# Altium schematic symbol library WCAP-CSGP.SchLib: 1002 symbols (part 19 of 21)
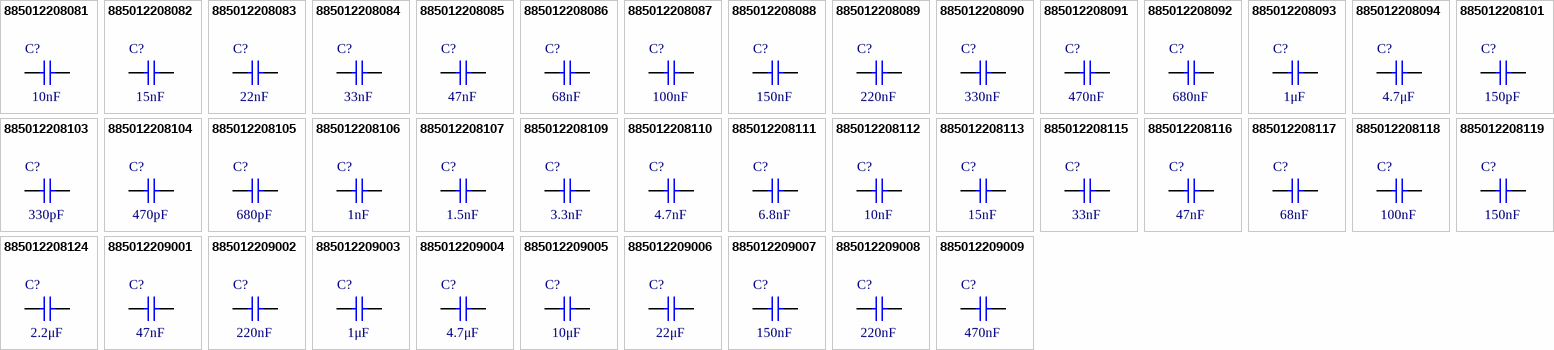
[diagram p43: symbols 885012208081 to 885012209009]

## 885012208092
designator C?, comment 680nF
WCAP-CSGP Multilayer Ceramic Chip Capacitor, General Purpose, size 1206, X7R, 680nF, 50V; Manufacturer Part Number: 885012208092; Manufacturer: Wurth Elektronik; Case/Size Code: 1206; Capacitance Tolerance: +/-10%; Dissipation Factor: 3%; Insulation Resistance: 0.7GΩ; Technical Reference: X7R1206684K050DFCT10000; Category: Multilayer Ceramic Chip Capacitors; Match Code: WCAP-CSGP; ComponentLink1Description: Website Link; ComponentLink1URL: https://www.we-online.com/redexpert/article/885012208092?ad; ComponentLink2Description: Datasheet Link; ComponentLink2URL: https://www.we-online.com/redexpert/spec/885012208092?ad; Mount: Surface Mount; Min Operating Temperature: -55°C; Max Operating Temperature: 125°C; Packaging: Tape and Reel; Length: 3.2mm; Width: 1.6mm; Height: 1.6mm; Capacitance: 680nF; Ceramic Type: X7R; Rated Voltage (DC): 50V
footprint WCAP-CSGP_1206_L3.2W1.6H1.6
simulation model 1206_885012208092_680nF
pins: 1, 2

## 885012208093
designator C?, comment 1μF
WCAP-CSGP Multilayer Ceramic Chip Capacitor, General Purpose, size 1206, X7R, 1μF, 50V; Manufacturer Part Number: 885012208093; Manufacturer: Wurth Elektronik; Case/Size Code: 1206; Capacitance Tolerance: +/-10%; Dissipation Factor: 3%; Insulation Resistance: 0.5GΩ; Technical Reference: X7R1206105K050DFCT10000; Category: Multilayer Ceramic Chip Capacitors; Match Code: WCAP-CSGP; ComponentLink1Description: Website Link; ComponentLink1URL: https://www.we-online.com/redexpert/article/885012208093?ad; ComponentLink2Description: Datasheet Link; ComponentLink2URL: https://www.we-online.com/redexpert/spec/885012208093?ad; Mount: Surface Mount; Min Operating Temperature: -55°C; Max Operating Temperature: 125°C; Packaging: Tape and Reel; Length: 3.2mm; Width: 1.6mm; Height: 1.6mm; Capacitance: 1μF; Ceramic Type: X7R; Rated Voltage (DC): 50V
footprint WCAP-CSGP_1206_L3.2W1.6H1.6
simulation model 1206_885012208093_1uF
pins: 1, 2

## 885012208094
designator C?, comment 4.7μF
WCAP-CSGP Multilayer Ceramic Chip Capacitor, General Purpose, size 1206, X7R, 4.7μF, 50V; Manufacturer Part Number: 885012208094; Manufacturer: Wurth Elektronik; Case/Size Code: 1206; Capacitance Tolerance: +/-10%; Dissipation Factor: 10%; Insulation Resistance: 0.02GΩ; Technical Reference: X7R1206475K050DFCT10000; Category: Multilayer Ceramic Chip Capacitors; Match Code: WCAP-CSGP; ComponentLink1Description: Website Link; ComponentLink1URL: https://www.we-online.com/redexpert/article/885012208094?ad; ComponentLink2Description: Datasheet Link; ComponentLink2URL: https://www.we-online.com/redexpert/spec/885012208094?ad; Mount: Surface Mount; Min Operating Temperature: -55°C; Max Operating Temperature: 125°C; Packaging: Tape and Reel; Length: 3.2mm; Width: 1.6mm; Height: 1.6mm; Capacitance: 4.7μF; Ceramic Type: X7R; Rated Voltage (DC): 50V
footprint WCAP-CSGP_1206_L3.2W1.6H1.6
simulation model 1206_885012208094_4.7uF
pins: 1, 2

## 885012208101
designator C?, comment 150pF
WCAP-CSGP Multilayer Ceramic Chip Capacitor, General Purpose, size 1206, X7R, 150pF, 100V; Manufacturer Part Number: 885012208101; Manufacturer: Wurth Elektronik; Case/Size Code: 1206; Capacitance Tolerance: +/-10%; Dissipation Factor: 2.5%; Insulation Resistance: 10GΩ; Technical Reference: X7R1206151K100DFCT10000; Category: Multilayer Ceramic Chip Capacitors; Match Code: WCAP-CSGP; ComponentLink1Description: Website Link; ComponentLink1URL: https://www.we-online.com/redexpert/article/885012208101?ad; ComponentLink2Description: Datasheet Link; ComponentLink2URL: https://www.we-online.com/redexpert/spec/885012208101?ad; Mount: Surface Mount; Min Operating Temperature: -55°C; Max Operating Temperature: 125°C; Packaging: Tape and Reel; Length: 3.2mm; Width: 1.6mm; Height: 0.8mm; Capacitance: 150pF; Ceramic Type: X7R; Rated Voltage (DC): 100V
footprint WCAP-CSGP_1206_L3.2W1.6H0.8
simulation model 1206_885012208101_150pF
pins: 1, 2

## 885012208103
designator C?, comment 330pF
WCAP-CSGP Multilayer Ceramic Chip Capacitor, General Purpose, size 1206, X7R, 330pF, 100V; Manufacturer Part Number: 885012208103; Manufacturer: Wurth Elektronik; Case/Size Code: 1206; Capacitance Tolerance: +/-10%; Dissipation Factor: 2.5%; Insulation Resistance: 10GΩ; Technical Reference: X7R1206331K100DFCT10000; Category: Multilayer Ceramic Chip Capacitors; Match Code: WCAP-CSGP; ComponentLink1Description: Website Link; ComponentLink1URL: https://www.we-online.com/redexpert/article/885012208103?ad; ComponentLink2Description: Datasheet Link; ComponentLink2URL: https://www.we-online.com/redexpert/spec/885012208103?ad; Mount: Surface Mount; Min Operating Temperature: -55°C; Max Operating Temperature: 125°C; Packaging: Tape and Reel; Length: 3.2mm; Width: 1.6mm; Height: 0.8mm; Capacitance: 330pF; Ceramic Type: X7R; Rated Voltage (DC): 100V
footprint WCAP-CSGP_1206_L3.2W1.6H0.8
simulation model 1206_885012208103_330pF
pins: 1, 2

## 885012208104
designator C?, comment 470pF
WCAP-CSGP Multilayer Ceramic Chip Capacitor, General Purpose, size 1206, X7R, 470pF, 100V; Manufacturer Part Number: 885012208104; Manufacturer: Wurth Elektronik; Case/Size Code: 1206; Capacitance Tolerance: +/-10%; Dissipation Factor: 2.5%; Insulation Resistance: 10GΩ; Technical Reference: X7R1206471K100DFCT10000; Category: Multilayer Ceramic Chip Capacitors; Match Code: WCAP-CSGP; ComponentLink1Description: Website Link; ComponentLink1URL: https://www.we-online.com/redexpert/article/885012208104?ad; ComponentLink2Description: Datasheet Link; ComponentLink2URL: https://www.we-online.com/redexpert/spec/885012208104?ad; Mount: Surface Mount; Min Operating Temperature: -55°C; Max Operating Temperature: 125°C; Packaging: Tape and Reel; Length: 3.2mm; Width: 1.6mm; Height: 0.8mm; Capacitance: 470pF; Ceramic Type: X7R; Rated Voltage (DC): 100V
footprint WCAP-CSGP_1206_L3.2W1.6H0.8
simulation model 1206_885012208104_470pF
pins: 1, 2

## 885012208105
designator C?, comment 680pF
WCAP-CSGP Multilayer Ceramic Chip Capacitor, General Purpose, size 1206, X7R, 680pF, 100V; Manufacturer Part Number: 885012208105; Manufacturer: Wurth Elektronik; Case/Size Code: 1206; Capacitance Tolerance: +/-10%; Dissipation Factor: 2.5%; Insulation Resistance: 10GΩ; Technical Reference: X7R1206681K100DFCT10000; Category: Multilayer Ceramic Chip Capacitors; Match Code: WCAP-CSGP; ComponentLink1Description: Website Link; ComponentLink1URL: https://www.we-online.com/redexpert/article/885012208105?ad; ComponentLink2Description: Datasheet Link; ComponentLink2URL: https://www.we-online.com/redexpert/spec/885012208105?ad; Mount: Surface Mount; Min Operating Temperature: -55°C; Max Operating Temperature: 125°C; Packaging: Tape and Reel; Length: 3.2mm; Width: 1.6mm; Height: 0.8mm; Capacitance: 680pF; Ceramic Type: X7R; Rated Voltage (DC): 100V
footprint WCAP-CSGP_1206_L3.2W1.6H0.8
simulation model 1206_885012208105_680pF
pins: 1, 2

## 885012208106
designator C?, comment 1nF
WCAP-CSGP Multilayer Ceramic Chip Capacitor, General Purpose, size 1206, X7R, 1nF, 100V; Manufacturer Part Number: 885012208106; Manufacturer: Wurth Elektronik; Case/Size Code: 1206; Capacitance Tolerance: +/-10%; Dissipation Factor: 2.5%; Insulation Resistance: 10GΩ; Technical Reference: X7R1206102K100DFCT10000; Category: Multilayer Ceramic Chip Capacitors; Match Code: WCAP-CSGP; ComponentLink1Description: Website Link; ComponentLink1URL: https://www.we-online.com/redexpert/article/885012208106?ad; ComponentLink2Description: Datasheet Link; ComponentLink2URL: https://www.we-online.com/redexpert/spec/885012208106?ad; Mount: Surface Mount; Min Operating Temperature: -55°C; Max Operating Temperature: 125°C; Packaging: Tape and Reel; Length: 3.2mm; Width: 1.6mm; Height: 0.8mm; Capacitance: 1nF; Ceramic Type: X7R; Rated Voltage (DC): 100V
footprint WCAP-CSGP_1206_L3.2W1.6H0.8
simulation model 1206_885012208106_1nF
pins: 1, 2

## 885012208107
designator C?, comment 1.5nF
WCAP-CSGP Multilayer Ceramic Chip Capacitor, General Purpose, size 1206, X7R, 1.5nF, 100V; Manufacturer Part Number: 885012208107; Manufacturer: Wurth Elektronik; Case/Size Code: 1206; Capacitance Tolerance: +/-10%; Dissipation Factor: 2.5%; Insulation Resistance: 10GΩ; Technical Reference: X7R1206152K100DFCT10000; Category: Multilayer Ceramic Chip Capacitors; Match Code: WCAP-CSGP; ComponentLink1Description: Website Link; ComponentLink1URL: https://www.we-online.com/redexpert/article/885012208107?ad; ComponentLink2Description: Datasheet Link; ComponentLink2URL: https://www.we-online.com/redexpert/spec/885012208107?ad; Mount: Surface Mount; Min Operating Temperature: -55°C; Max Operating Temperature: 125°C; Packaging: Tape and Reel; Length: 3.2mm; Width: 1.6mm; Height: 0.8mm; Capacitance: 1.5nF; Ceramic Type: X7R; Rated Voltage (DC): 100V
footprint WCAP-CSGP_1206_L3.2W1.6H0.8
simulation model 1206_885012208107_1.5nF
pins: 1, 2

## 885012208109
designator C?, comment 3.3nF
WCAP-CSGP Multilayer Ceramic Chip Capacitor, General Purpose, size 1206, X7R, 3.3nF, 100V; Manufacturer Part Number: 885012208109; Manufacturer: Wurth Elektronik; Case/Size Code: 1206; Capacitance Tolerance: +/-10%; Dissipation Factor: 2.5%; Insulation Resistance: 10GΩ; Technical Reference: X7R1206332K100DFCT10000; Category: Multilayer Ceramic Chip Capacitors; Match Code: WCAP-CSGP; ComponentLink1Description: Website Link; ComponentLink1URL: https://www.we-online.com/redexpert/article/885012208109?ad; ComponentLink2Description: Datasheet Link; ComponentLink2URL: https://www.we-online.com/redexpert/spec/885012208109?ad; Mount: Surface Mount; Min Operating Temperature: -55°C; Max Operating Temperature: 125°C; Packaging: Tape and Reel; Length: 3.2mm; Width: 1.6mm; Height: 0.8mm; Capacitance: 3.3nF; Ceramic Type: X7R; Rated Voltage (DC): 100V
footprint WCAP-CSGP_1206_L3.2W1.6H0.8
simulation model 1206_885012208109_3.3nF
pins: 1, 2

## 885012208110
designator C?, comment 4.7nF
WCAP-CSGP Multilayer Ceramic Chip Capacitor, General Purpose, size 1206, X7R, 4.7nF, 100V; Manufacturer Part Number: 885012208110; Manufacturer: Wurth Elektronik; Case/Size Code: 1206; Capacitance Tolerance: +/-10%; Dissipation Factor: 2.5%; Insulation Resistance: 10GΩ; Technical Reference: X7R1206472K100DFCT10000; Category: Multilayer Ceramic Chip Capacitors; Match Code: WCAP-CSGP; ComponentLink1Description: Website Link; ComponentLink1URL: https://www.we-online.com/redexpert/article/885012208110?ad; ComponentLink2Description: Datasheet Link; ComponentLink2URL: https://www.we-online.com/redexpert/spec/885012208110?ad; Mount: Surface Mount; Min Operating Temperature: -55°C; Max Operating Temperature: 125°C; Packaging: Tape and Reel; Length: 3.2mm; Width: 1.6mm; Height: 0.8mm; Capacitance: 4.7nF; Ceramic Type: X7R; Rated Voltage (DC): 100V
footprint WCAP-CSGP_1206_L3.2W1.6H0.8
simulation model 1206_885012208110_4.7nF
pins: 1, 2

## 885012208111
designator C?, comment 6.8nF
WCAP-CSGP Multilayer Ceramic Chip Capacitor, General Purpose, size 1206, X7R, 6.8nF, 100V; Manufacturer Part Number: 885012208111; Manufacturer: Wurth Elektronik; Case/Size Code: 1206; Capacitance Tolerance: +/-10%; Dissipation Factor: 2.5%; Insulation Resistance: 10GΩ; Technical Reference: X7R1206682K100DFCT10000; Category: Multilayer Ceramic Chip Capacitors; Match Code: WCAP-CSGP; ComponentLink1Description: Website Link; ComponentLink1URL: https://www.we-online.com/redexpert/article/885012208111?ad; ComponentLink2Description: Datasheet Link; ComponentLink2URL: https://www.we-online.com/redexpert/spec/885012208111?ad; Mount: Surface Mount; Min Operating Temperature: -55°C; Max Operating Temperature: 125°C; Packaging: Tape and Reel; Length: 3.2mm; Width: 1.6mm; Height: 0.8mm; Capacitance: 6.8nF; Ceramic Type: X7R; Rated Voltage (DC): 100V
footprint WCAP-CSGP_1206_L3.2W1.6H0.8
simulation model 1206_885012208111_6.8nF
pins: 1, 2

## 885012208112
designator C?, comment 10nF
WCAP-CSGP Multilayer Ceramic Chip Capacitor, General Purpose, size 1206, X7R, 10nF, 100V; Manufacturer Part Number: 885012208112; Manufacturer: Wurth Elektronik; Case/Size Code: 1206; Capacitance Tolerance: +/-10%; Dissipation Factor: 2.5%; Insulation Resistance: 10GΩ; Technical Reference: X7R1206103K100DFCT10000; Category: Multilayer Ceramic Chip Capacitors; Match Code: WCAP-CSGP; ComponentLink1Description: Website Link; ComponentLink1URL: https://www.we-online.com/redexpert/article/885012208112?ad; ComponentLink2Description: Datasheet Link; ComponentLink2URL: https://www.we-online.com/redexpert/spec/885012208112?ad; Mount: Surface Mount; Min Operating Temperature: -55°C; Max Operating Temperature: 125°C; Packaging: Tape and Reel; Length: 3.2mm; Width: 1.6mm; Height: 0.8mm; Capacitance: 10nF; Ceramic Type: X7R; Rated Voltage (DC): 100V
footprint WCAP-CSGP_1206_L3.2W1.6H0.8
simulation model 1206_885012208112_10nF
pins: 1, 2

## 885012208113
designator C?, comment 15nF
WCAP-CSGP Multilayer Ceramic Chip Capacitor, General Purpose, size 1206, X7R, 15nF, 100V; Manufacturer Part Number: 885012208113; Manufacturer: Wurth Elektronik; Case/Size Code: 1206; Capacitance Tolerance: +/-10%; Dissipation Factor: 2.5%; Insulation Resistance: 6.7GΩ; Technical Reference: X7R1206153K100DFCT10000; Category: Multilayer Ceramic Chip Capacitors; Match Code: WCAP-CSGP; ComponentLink1Description: Website Link; ComponentLink1URL: https://www.we-online.com/redexpert/article/885012208113?ad; ComponentLink2Description: Datasheet Link; ComponentLink2URL: https://www.we-online.com/redexpert/spec/885012208113?ad; Mount: Surface Mount; Min Operating Temperature: -55°C; Max Operating Temperature: 125°C; Packaging: Tape and Reel; Length: 3.2mm; Width: 1.6mm; Height: 0.8mm; Capacitance: 15nF; Ceramic Type: X7R; Rated Voltage (DC): 100V
footprint WCAP-CSGP_1206_L3.2W1.6H0.8
simulation model 1206_885012208113_15nF
pins: 1, 2

## 885012208115
designator C?, comment 33nF
WCAP-CSGP Multilayer Ceramic Chip Capacitor, General Purpose, size 1206, X7R, 33nF, 100V; Manufacturer Part Number: 885012208115; Manufacturer: Wurth Elektronik; Case/Size Code: 1206; Capacitance Tolerance: +/-10%; Dissipation Factor: 2.5%; Insulation Resistance: 3GΩ; Technical Reference: X7R1206333K100DFCT10000; Category: Multilayer Ceramic Chip Capacitors; Match Code: WCAP-CSGP; ComponentLink1Description: Website Link; ComponentLink1URL: https://www.we-online.com/redexpert/article/885012208115?ad; ComponentLink2Description: Datasheet Link; ComponentLink2URL: https://www.we-online.com/redexpert/spec/885012208115?ad; Mount: Surface Mount; Min Operating Temperature: -55°C; Max Operating Temperature: 125°C; Packaging: Tape and Reel; Length: 3.2mm; Width: 1.6mm; Height: 0.8mm; Capacitance: 33nF; Ceramic Type: X7R; Rated Voltage (DC): 100V
footprint WCAP-CSGP_1206_L3.2W1.6H0.8
simulation model 1206_885012208115_33nF
pins: 1, 2

## 885012208116
designator C?, comment 47nF
WCAP-CSGP Multilayer Ceramic Chip Capacitor, General Purpose, size 1206, X7R, 47nF, 100V; Manufacturer Part Number: 885012208116; Manufacturer: Wurth Elektronik; Case/Size Code: 1206; Capacitance Tolerance: +/-10%; Dissipation Factor: 2.5%; Insulation Resistance: 2.1GΩ; Technical Reference: X7R1206473K100DFCT10000; Category: Multilayer Ceramic Chip Capacitors; Match Code: WCAP-CSGP; ComponentLink1Description: Website Link; ComponentLink1URL: https://www.we-online.com/redexpert/article/885012208116?ad; ComponentLink2Description: Datasheet Link; ComponentLink2URL: https://www.we-online.com/redexpert/spec/885012208116?ad; Mount: Surface Mount; Min Operating Temperature: -55°C; Max Operating Temperature: 125°C; Packaging: Tape and Reel; Length: 3.2mm; Width: 1.6mm; Height: 0.8mm; Capacitance: 47nF; Ceramic Type: X7R; Rated Voltage (DC): 100V
footprint WCAP-CSGP_1206_L3.2W1.6H0.8
simulation model 1206_885012208116_47nF
pins: 1, 2

## 885012208117
designator C?, comment 68nF
WCAP-CSGP Multilayer Ceramic Chip Capacitor, General Purpose, size 1206, X7R, 68nF, 100V; Manufacturer Part Number: 885012208117; Manufacturer: Wurth Elektronik; Case/Size Code: 1206; Capacitance Tolerance: +/-10%; Dissipation Factor: 2.5%; Insulation Resistance: 1.5GΩ; Technical Reference: X7R1206683K100DFCT10000; Category: Multilayer Ceramic Chip Capacitors; Match Code: WCAP-CSGP; ComponentLink1Description: Website Link; ComponentLink1URL: https://www.we-online.com/redexpert/article/885012208117?ad; ComponentLink2Description: Datasheet Link; ComponentLink2URL: https://www.we-online.com/redexpert/spec/885012208117?ad; Mount: Surface Mount; Min Operating Temperature: -55°C; Max Operating Temperature: 125°C; Packaging: Tape and Reel; Length: 3.2mm; Width: 1.6mm; Height: 0.8mm; Capacitance: 68nF; Ceramic Type: X7R; Rated Voltage (DC): 100V
footprint WCAP-CSGP_1206_L3.2W1.6H0.8
simulation model 1206_885012208117_68nF
pins: 1, 2

## 885012208118
designator C?, comment 100nF
WCAP-CSGP Multilayer Ceramic Chip Capacitor, General Purpose, size 1206, X7R, 100nF, 100V; Manufacturer Part Number: 885012208118; Manufacturer: Wurth Elektronik; Case/Size Code: 1206; Capacitance Tolerance: +/-10%; Dissipation Factor: 2.5%; Insulation Resistance: 1GΩ; Technical Reference: X7R1206104K100DFCT10000; Category: Multilayer Ceramic Chip Capacitors; Match Code: WCAP-CSGP; ComponentLink1Description: Website Link; ComponentLink1URL: https://www.we-online.com/redexpert/article/885012208118?ad; ComponentLink2Description: Datasheet Link; ComponentLink2URL: https://www.we-online.com/redexpert/spec/885012208118?ad; Mount: Surface Mount; Min Operating Temperature: -55°C; Max Operating Temperature: 125°C; Packaging: Tape and Reel; Length: 3.2mm; Width: 1.6mm; Height: 1.25mm; Capacitance: 100nF; Ceramic Type: X7R; Rated Voltage (DC): 100V
footprint WCAP-CSGP_1206_L3.2W1.6H1.25
simulation model 1206_885012208118_100nF
pins: 1, 2

## 885012208119
designator C?, comment 150nF
WCAP-CSGP Multilayer Ceramic Chip Capacitor, General Purpose, size 1206, X7R, 150nF, 100V; Manufacturer Part Number: 885012208119; Manufacturer: Wurth Elektronik; Case/Size Code: 1206; Capacitance Tolerance: +/-10%; Dissipation Factor: 2.5%; Insulation Resistance: 0.7GΩ; Technical Reference: X7R1206154K100DFCT10000; Category: Multilayer Ceramic Chip Capacitors; Match Code: WCAP-CSGP; ComponentLink1Description: Website Link; ComponentLink1URL: https://www.we-online.com/redexpert/article/885012208119?ad; ComponentLink2Description: Datasheet Link; ComponentLink2URL: https://www.we-online.com/redexpert/spec/885012208119?ad; Mount: Surface Mount; Min Operating Temperature: -55°C; Max Operating Temperature: 125°C; Packaging: Tape and Reel; Length: 3.2mm; Width: 1.6mm; Height: 1.6mm; Capacitance: 150nF; Ceramic Type: X7R; Rated Voltage (DC): 100V
footprint WCAP-CSGP_1206_L3.2W1.6H1.6
simulation model 1206_885012208119_150nF
pins: 1, 2

## 885012208124
designator C?, comment 2.2μF
WCAP-CSGP Multilayer Ceramic Chip Capacitor, General Purpose, size 1206, X7R, 2.2μF, 100V; Manufacturer Part Number: 885012208124; Manufacturer: Wurth Elektronik; Case/Size Code: 1206; Capacitance Tolerance: +/-10%; Dissipation Factor: 5%; Insulation Resistance: 0.05GΩ; Technical Reference: X7R1206225K100DFCT10000; Category: Multilayer Ceramic Chip Capacitors; Match Code: WCAP-CSGP; ComponentLink1Description: Website Link; ComponentLink1URL: https://www.we-online.com/redexpert/article/885012208124?ad; ComponentLink2Description: Datasheet Link; ComponentLink2URL: https://www.we-online.com/redexpert/spec/885012208124?ad; Mount: Surface Mount; Min Operating Temperature: -55°C; Max Operating Temperature: 125°C; Packaging: Tape and Reel; Length: 3.2mm; Width: 1.6mm; Height: 1.6mm; Capacitance: 2.2μF; Ceramic Type: X7R; Rated Voltage (DC): 100V
footprint WCAP-CSGP_1206_L3.2W1.6H1.6
pins: 1, 2

## 885012209001
designator C?, comment 47nF
WCAP-CSGP Multilayer Ceramic Chip Capacitor, General Purpose, size 1210, X7R, 47nF, 10V; Manufacturer Part Number: 885012209001; Manufacturer: Wurth Elektronik; Case/Size Code: 1210; Capacitance Tolerance: +/-10%; Dissipation Factor: 5%; Insulation Resistance: 10GΩ; Technical Reference: X7R1210473K010DFCT10000; Category: Multilayer Ceramic Chip Capacitors; Match Code: WCAP-CSGP; ComponentLink1Description: Website Link; ComponentLink1URL: https://www.we-online.com/redexpert/article/885012209001?ad; ComponentLink2Description: Datasheet Link; ComponentLink2URL: https://www.we-online.com/redexpert/spec/885012209001?ad; Mount: Surface Mount; Min Operating Temperature: -55°C; Max Operating Temperature: 125°C; Packaging: Tape and Reel; Length: 3.2mm; Width: 2.5mm; Height: 0.95mm; Capacitance: 47nF; Ceramic Type: X7R; Rated Voltage (DC): 10V
footprint WCAP-CSGP_1210_L3.2W2.5H0.95
simulation model 1210_885012209001_47nF
pins: 1, 2

## 885012209002
designator C?, comment 220nF
WCAP-CSGP Multilayer Ceramic Chip Capacitor, General Purpose, size 1210, X7R, 220nF, 10V; Manufacturer Part Number: 885012209002; Manufacturer: Wurth Elektronik; Case/Size Code: 1210; Capacitance Tolerance: +/-10%; Dissipation Factor: 5%; Insulation Resistance: 2.3GΩ; Technical Reference: X7R1210224K010DFCT10000; Category: Multilayer Ceramic Chip Capacitors; Match Code: WCAP-CSGP; ComponentLink1Description: Website Link; ComponentLink1URL: https://www.we-online.com/redexpert/article/885012209002?ad; ComponentLink2Description: Datasheet Link; ComponentLink2URL: https://www.we-online.com/redexpert/spec/885012209002?ad; Mount: Surface Mount; Min Operating Temperature: -55°C; Max Operating Temperature: 125°C; Packaging: Tape and Reel; Length: 3.2mm; Width: 2.5mm; Height: 0.95mm; Capacitance: 220nF; Ceramic Type: X7R; Rated Voltage (DC): 10V
footprint WCAP-CSGP_1210_L3.2W2.5H0.95
simulation model 1210_885012209002_220nF
pins: 1, 2

## 885012209003
designator C?, comment 1μF
WCAP-CSGP Multilayer Ceramic Chip Capacitor, General Purpose, size 1210, X7R, 1μF, 10V; Manufacturer Part Number: 885012209003; Manufacturer: Wurth Elektronik; Case/Size Code: 1210; Capacitance Tolerance: +/-10%; Dissipation Factor: 5%; Insulation Resistance: 0.5GΩ; Technical Reference: X7R1210105K010DFCT10000; Category: Multilayer Ceramic Chip Capacitors; Match Code: WCAP-CSGP; ComponentLink1Description: Website Link; ComponentLink1URL: https://www.we-online.com/redexpert/article/885012209003?ad; ComponentLink2Description: Datasheet Link; ComponentLink2URL: https://www.we-online.com/redexpert/spec/885012209003?ad; Mount: Surface Mount; Min Operating Temperature: -55°C; Max Operating Temperature: 125°C; Packaging: Tape and Reel; Length: 3.2mm; Width: 2.5mm; Height: 1.25mm; Capacitance: 1μF; Ceramic Type: X7R; Rated Voltage (DC): 10V
footprint WCAP-CSGP_1210_L3.2W2.5H1.25
simulation model 1210_885012209003_1uF
pins: 1, 2

## 885012209004
designator C?, comment 4.7μF
WCAP-CSGP Multilayer Ceramic Chip Capacitor, General Purpose, size 1210, X7R, 4.7μF, 10V; Manufacturer Part Number: 885012209004; Manufacturer: Wurth Elektronik; Case/Size Code: 1210; Capacitance Tolerance: +/-10%; Dissipation Factor: 5%; Insulation Resistance: 0.1GΩ; Technical Reference: X7R1210475K010DFCT10000; Category: Multilayer Ceramic Chip Capacitors; Match Code: WCAP-CSGP; ComponentLink1Description: Website Link; ComponentLink1URL: https://www.we-online.com/redexpert/article/885012209004?ad; ComponentLink2Description: Datasheet Link; ComponentLink2URL: https://www.we-online.com/redexpert/spec/885012209004?ad; Mount: Surface Mount; Min Operating Temperature: -55°C; Max Operating Temperature: 125°C; Packaging: Tape and Reel; Length: 3.2mm; Width: 2.5mm; Height: 2mm; Capacitance: 4.7μF; Ceramic Type: X7R; Rated Voltage (DC): 10V
footprint WCAP-CSGP_1210_L3.2W2.5H2
simulation model 1210_885012209004_4.7uF
pins: 1, 2

## 885012209005
designator C?, comment 10μF
WCAP-CSGP Multilayer Ceramic Chip Capacitor, General Purpose, size 1210, X7R, 10μF, 10V; Manufacturer Part Number: 885012209005; Manufacturer: Wurth Elektronik; Case/Size Code: 1210; Capacitance Tolerance: +/-10%; Dissipation Factor: 5%; Insulation Resistance: 0.1GΩ; Technical Reference: X7R1210106K010DFCT10000; Category: Multilayer Ceramic Chip Capacitors; Match Code: WCAP-CSGP; ComponentLink1Description: Website Link; ComponentLink1URL: https://www.we-online.com/redexpert/article/885012209005?ad; ComponentLink2Description: Datasheet Link; ComponentLink2URL: https://www.we-online.com/redexpert/spec/885012209005?ad; Mount: Surface Mount; Min Operating Temperature: -55°C; Max Operating Temperature: 125°C; Packaging: Tape and Reel; Length: 3.2mm; Width: 2.5mm; Height: 2mm; Capacitance: 10μF; Ceramic Type: X7R; Rated Voltage (DC): 10V
footprint WCAP-CSGP_1210_L3.2W2.5H2
simulation model 1210_885012209005_10uF
pins: 1, 2

## 885012209006
designator C?, comment 22μF
WCAP-CSGP Multilayer Ceramic Chip Capacitor, General Purpose, size 1210, X7R, 22μF, 10V; Manufacturer Part Number: 885012209006; Manufacturer: Wurth Elektronik; Case/Size Code: 1210; Capacitance Tolerance: +/-10%; Dissipation Factor: 5%; Insulation Resistance: 0.02GΩ; Technical Reference: X7R1210226K010DFCT10000; Category: Multilayer Ceramic Chip Capacitors; Match Code: WCAP-CSGP; ComponentLink1Description: Website Link; ComponentLink1URL: https://www.we-online.com/redexpert/article/885012209006?ad; ComponentLink2Description: Datasheet Link; ComponentLink2URL: https://www.we-online.com/redexpert/spec/885012209006?ad; Mount: Surface Mount; Min Operating Temperature: -55°C; Max Operating Temperature: 125°C; Packaging: Tape and Reel; Length: 3.2mm; Width: 2.5mm; Height: 2.5mm; Capacitance: 22μF; Ceramic Type: X7R; Rated Voltage (DC): 10V
footprint WCAP-CSGP_1210_L3.2W2.5H2.5
simulation model 1210_885012209006_22uF
pins: 1, 2

## 885012209007
designator C?, comment 150nF
WCAP-CSGP Multilayer Ceramic Chip Capacitor, General Purpose, size 1210, X7R, 150nF, 16V; Manufacturer Part Number: 885012209007; Manufacturer: Wurth Elektronik; Case/Size Code: 1210; Capacitance Tolerance: +/-10%; Dissipation Factor: 3.5%; Insulation Resistance: 3.3GΩ; Technical Reference: X7R1210154K016DFCT10000; Category: Multilayer Ceramic Chip Capacitors; Match Code: WCAP-CSGP; ComponentLink1Description: Website Link; ComponentLink1URL: https://www.we-online.com/redexpert/article/885012209007?ad; ComponentLink2Description: Datasheet Link; ComponentLink2URL: https://www.we-online.com/redexpert/spec/885012209007?ad; Mount: Surface Mount; Min Operating Temperature: -55°C; Max Operating Temperature: 125°C; Packaging: Tape and Reel; Length: 3.2mm; Width: 2.5mm; Height: 0.95mm; Capacitance: 150nF; Ceramic Type: X7R; Rated Voltage (DC): 16V
footprint WCAP-CSGP_1210_L3.2W2.5H0.95
simulation model 1210_885012209007_150nF
pins: 1, 2

## 885012209008
designator C?, comment 220nF
WCAP-CSGP Multilayer Ceramic Chip Capacitor, General Purpose, size 1210, X7R, 220nF, 16V; Manufacturer Part Number: 885012209008; Manufacturer: Wurth Elektronik; Case/Size Code: 1210; Capacitance Tolerance: +/-10%; Dissipation Factor: 3.5%; Insulation Resistance: 2.3GΩ; Technical Reference: X7R1210224K016DFCT10000; Category: Multilayer Ceramic Chip Capacitors; Match Code: WCAP-CSGP; ComponentLink1Description: Website Link; ComponentLink1URL: https://www.we-online.com/redexpert/article/885012209008?ad; ComponentLink2Description: Datasheet Link; ComponentLink2URL: https://www.we-online.com/redexpert/spec/885012209008?ad; Mount: Surface Mount; Min Operating Temperature: -55°C; Max Operating Temperature: 125°C; Packaging: Tape and Reel; Length: 3.2mm; Width: 2.5mm; Height: 0.95mm; Capacitance: 220nF; Ceramic Type: X7R; Rated Voltage (DC): 16V
footprint WCAP-CSGP_1210_L3.2W2.5H0.95
simulation model 1210_885012209008_220nF
pins: 1, 2

## 885012209009
designator C?, comment 470nF
WCAP-CSGP Multilayer Ceramic Chip Capacitor, General Purpose, size 1210, X7R, 470nF, 16V; Manufacturer Part Number: 885012209009; Manufacturer: Wurth Elektronik; Case/Size Code: 1210; Capacitance Tolerance: +/-10%; Dissipation Factor: 3.5%; Insulation Resistance: 1.1GΩ; Technical Reference: X7R1210474K016DFCT10000; Category: Multilayer Ceramic Chip Capacitors; Match Code: WCAP-CSGP; ComponentLink1Description: Website Link; ComponentLink1URL: https://www.we-online.com/redexpert/article/885012209009?ad; ComponentLink2Description: Datasheet Link; ComponentLink2URL: https://www.we-online.com/redexpert/spec/885012209009?ad; Mount: Surface Mount; Min Operating Temperature: -55°C; Max Operating Temperature: 125°C; Packaging: Tape and Reel; Length: 3.2mm; Width: 2.5mm; Height: 0.95mm; Capacitance: 470nF; Ceramic Type: X7R; Rated Voltage (DC): 16V
footprint WCAP-CSGP_1210_L3.2W2.5H0.95
simulation model 1210_885012209009_470nF
pins: 1, 2

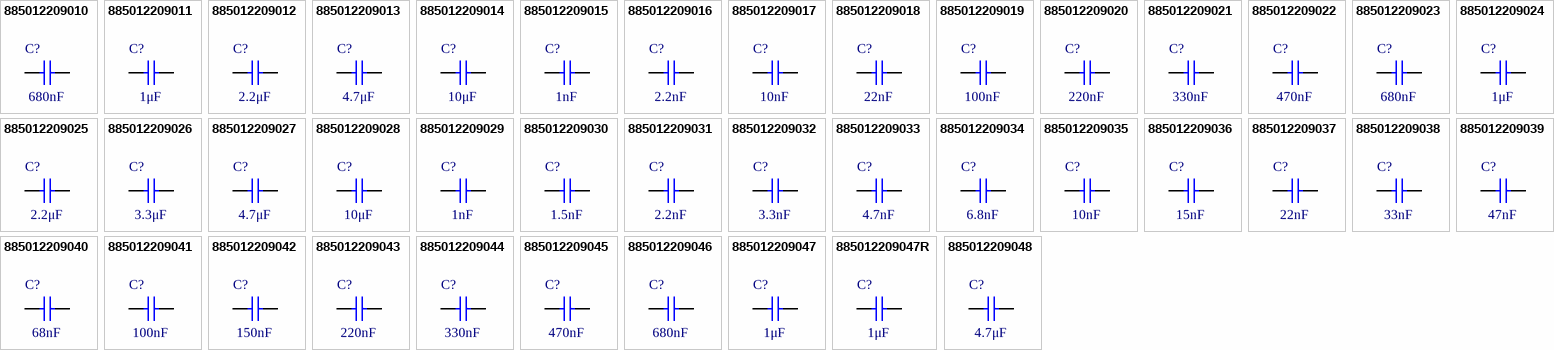
[diagram p23: symbols 885012209010 to 885012209048]

## 885012209010
designator C?, comment 680nF
WCAP-CSGP Multilayer Ceramic Chip Capacitor, General Purpose, size 1210, X7R, 680nF, 16V; Manufacturer Part Number: 885012209010; Manufacturer: Wurth Elektronik; Case/Size Code: 1210; Capacitance Tolerance: +/-10%; Dissipation Factor: 3.5%; Insulation Resistance: 0.7GΩ; Technical Reference: X7R1210684K016DFCT10000; Category: Multilayer Ceramic Chip Capacitors; Match Code: WCAP-CSGP; ComponentLink1Description: Website Link; ComponentLink1URL: https://www.we-online.com/redexpert/article/885012209010?ad; ComponentLink2Description: Datasheet Link; ComponentLink2URL: https://www.we-online.com/redexpert/spec/885012209010?ad; Mount: Surface Mount; Min Operating Temperature: -55°C; Max Operating Temperature: 125°C; Packaging: Tape and Reel; Length: 3.2mm; Width: 2.5mm; Height: 1.25mm; Capacitance: 680nF; Ceramic Type: X7R; Rated Voltage (DC): 16V
footprint WCAP-CSGP_1210_L3.2W2.5H1.25
simulation model 1210_885012209010_680nF
pins: 1, 2

## 885012209011
designator C?, comment 1μF
WCAP-CSGP Multilayer Ceramic Chip Capacitor, General Purpose, size 1210, X7R, 1μF, 16V; Manufacturer Part Number: 885012209011; Manufacturer: Wurth Elektronik; Case/Size Code: 1210; Capacitance Tolerance: +/-10%; Dissipation Factor: 3.5%; Insulation Resistance: 0.5GΩ; Technical Reference: X7R1210105K016DFCT10000; Category: Multilayer Ceramic Chip Capacitors; Match Code: WCAP-CSGP; ComponentLink1Description: Website Link; ComponentLink1URL: https://www.we-online.com/redexpert/article/885012209011?ad; ComponentLink2Description: Datasheet Link; ComponentLink2URL: https://www.we-online.com/redexpert/spec/885012209011?ad; Mount: Surface Mount; Min Operating Temperature: -55°C; Max Operating Temperature: 125°C; Packaging: Tape and Reel; Length: 3.2mm; Width: 2.5mm; Height: 1.25mm; Capacitance: 1μF; Ceramic Type: X7R; Rated Voltage (DC): 16V
footprint WCAP-CSGP_1210_L3.2W2.5H1.25
simulation model 1210_885012209011_1uF
pins: 1, 2

## 885012209012
designator C?, comment 2.2μF
WCAP-CSGP Multilayer Ceramic Chip Capacitor, General Purpose, size 1210, X7R, 2.2μF, 16V; Manufacturer Part Number: 885012209012; Manufacturer: Wurth Elektronik; Case/Size Code: 1210; Capacitance Tolerance: +/-10%; Dissipation Factor: 3.5%; Insulation Resistance: 0.2GΩ; Technical Reference: X7R1210225K016DFCT10000; Category: Multilayer Ceramic Chip Capacitors; Match Code: WCAP-CSGP; ComponentLink1Description: Website Link; ComponentLink1URL: https://www.we-online.com/redexpert/article/885012209012?ad; ComponentLink2Description: Datasheet Link; ComponentLink2URL: https://www.we-online.com/redexpert/spec/885012209012?ad; Mount: Surface Mount; Min Operating Temperature: -55°C; Max Operating Temperature: 125°C; Packaging: Tape and Reel; Length: 3.2mm; Width: 2.5mm; Height: 2mm; Capacitance: 2.2μF; Ceramic Type: X7R; Rated Voltage (DC): 16V
footprint WCAP-CSGP_1210_L3.2W2.5H2
simulation model 1210_885012209012_2.2uF
pins: 1, 2

## 885012209013
designator C?, comment 4.7μF
WCAP-CSGP Multilayer Ceramic Chip Capacitor, General Purpose, size 1210, X7R, 4.7μF, 16V; Manufacturer Part Number: 885012209013; Manufacturer: Wurth Elektronik; Case/Size Code: 1210; Capacitance Tolerance: +/-10%; Dissipation Factor: 5%; Insulation Resistance: 0.1GΩ; Technical Reference: X7R1210475K016DFCT10000; Category: Multilayer Ceramic Chip Capacitors; Match Code: WCAP-CSGP; ComponentLink1Description: Website Link; ComponentLink1URL: https://www.we-online.com/redexpert/article/885012209013?ad; ComponentLink2Description: Datasheet Link; ComponentLink2URL: https://www.we-online.com/redexpert/spec/885012209013?ad; Mount: Surface Mount; Min Operating Temperature: -55°C; Max Operating Temperature: 125°C; Packaging: Tape and Reel; Length: 3.2mm; Width: 2.5mm; Height: 2mm; Capacitance: 4.7μF; Ceramic Type: X7R; Rated Voltage (DC): 16V
footprint WCAP-CSGP_1210_L3.2W2.5H2
simulation model 1210_885012209013_4.7uF
pins: 1, 2

## 885012209014
designator C?, comment 10μF
WCAP-CSGP Multilayer Ceramic Chip Capacitor, General Purpose, size 1210, X7R, 10μF, 16V; Manufacturer Part Number: 885012209014; Manufacturer: Wurth Elektronik; Case/Size Code: 1210; Capacitance Tolerance: +/-10%; Dissipation Factor: 5%; Insulation Resistance: 0.1GΩ; Technical Reference: X7R1210106K016DFCT10000; Category: Multilayer Ceramic Chip Capacitors; Match Code: WCAP-CSGP; ComponentLink1Description: Website Link; ComponentLink1URL: https://www.we-online.com/redexpert/article/885012209014?ad; ComponentLink2Description: Datasheet Link; ComponentLink2URL: https://www.we-online.com/redexpert/spec/885012209014?ad; Mount: Surface Mount; Min Operating Temperature: -55°C; Max Operating Temperature: 125°C; Packaging: Tape and Reel; Length: 3.2mm; Width: 2.5mm; Height: 2mm; Capacitance: 10μF; Ceramic Type: X7R; Rated Voltage (DC): 16V
footprint WCAP-CSGP_1210_L3.2W2.5H2
simulation model 1210_885012209014_10uF
pins: 1, 2

## 885012209015
designator C?, comment 1nF
WCAP-CSGP Multilayer Ceramic Chip Capacitor, General Purpose, size 1210, X7R, 1nF, 25V; Manufacturer Part Number: 885012209015; Manufacturer: Wurth Elektronik; Case/Size Code: 1210; Capacitance Tolerance: +/-10%; Dissipation Factor: 3.5%; Insulation Resistance: 10GΩ; Technical Reference: X7R1210102K025DFCT10000; Category: Multilayer Ceramic Chip Capacitors; Match Code: WCAP-CSGP; ComponentLink1Description: Website Link; ComponentLink1URL: https://www.we-online.com/redexpert/article/885012209015?ad; ComponentLink2Description: Datasheet Link; ComponentLink2URL: https://www.we-online.com/redexpert/spec/885012209015?ad; Mount: Surface Mount; Min Operating Temperature: -55°C; Max Operating Temperature: 125°C; Packaging: Tape and Reel; Length: 3.2mm; Width: 2.5mm; Height: 0.95mm; Capacitance: 1nF; Ceramic Type: X7R; Rated Voltage (DC): 25V
footprint WCAP-CSGP_1210_L3.2W2.5H0.95
simulation model 1210_885012209015_1nF
pins: 1, 2

## 885012209016
designator C?, comment 2.2nF
WCAP-CSGP Multilayer Ceramic Chip Capacitor, General Purpose, size 1210, X7R, 2.2nF, 25V; Manufacturer Part Number: 885012209016; Manufacturer: Wurth Elektronik; Case/Size Code: 1210; Capacitance Tolerance: +/-10%; Dissipation Factor: 3.5%; Insulation Resistance: 10GΩ; Technical Reference: X7R1210222K025DFCT10000; Category: Multilayer Ceramic Chip Capacitors; Match Code: WCAP-CSGP; ComponentLink1Description: Website Link; ComponentLink1URL: https://www.we-online.com/redexpert/article/885012209016?ad; ComponentLink2Description: Datasheet Link; ComponentLink2URL: https://www.we-online.com/redexpert/spec/885012209016?ad; Mount: Surface Mount; Min Operating Temperature: -55°C; Max Operating Temperature: 125°C; Packaging: Tape and Reel; Length: 3.2mm; Width: 2.5mm; Height: 0.95mm; Capacitance: 2.2nF; Ceramic Type: X7R; Rated Voltage (DC): 25V
footprint WCAP-CSGP_1210_L3.2W2.5H0.95
simulation model 1210_885012209016_2.2nF
pins: 1, 2

## 885012209017
designator C?, comment 10nF
WCAP-CSGP Multilayer Ceramic Chip Capacitor, General Purpose, size 1210, X7R, 10nF, 25V; Manufacturer Part Number: 885012209017; Manufacturer: Wurth Elektronik; Case/Size Code: 1210; Capacitance Tolerance: +/-10%; Dissipation Factor: 3.5%; Insulation Resistance: 10GΩ; Technical Reference: X7R1210103K025DFCT10000; Category: Multilayer Ceramic Chip Capacitors; Match Code: WCAP-CSGP; ComponentLink1Description: Website Link; ComponentLink1URL: https://www.we-online.com/redexpert/article/885012209017?ad; ComponentLink2Description: Datasheet Link; ComponentLink2URL: https://www.we-online.com/redexpert/spec/885012209017?ad; Mount: Surface Mount; Min Operating Temperature: -55°C; Max Operating Temperature: 125°C; Packaging: Tape and Reel; Length: 3.2mm; Width: 2.5mm; Height: 0.95mm; Capacitance: 10nF; Ceramic Type: X7R; Rated Voltage (DC): 25V
footprint WCAP-CSGP_1210_L3.2W2.5H0.95
simulation model 1210_885012209017_10nF
pins: 1, 2

## 885012209018
designator C?, comment 22nF
WCAP-CSGP Multilayer Ceramic Chip Capacitor, General Purpose, size 1210, X7R, 22nF, 25V; Manufacturer Part Number: 885012209018; Manufacturer: Wurth Elektronik; Case/Size Code: 1210; Capacitance Tolerance: +/-10%; Dissipation Factor: 3.5%; Insulation Resistance: 10GΩ; Technical Reference: X7R1210223K025DFCT10000; Category: Multilayer Ceramic Chip Capacitors; Match Code: WCAP-CSGP; ComponentLink1Description: Website Link; ComponentLink1URL: https://www.we-online.com/redexpert/article/885012209018?ad; ComponentLink2Description: Datasheet Link; ComponentLink2URL: https://www.we-online.com/redexpert/spec/885012209018?ad; Mount: Surface Mount; Min Operating Temperature: -55°C; Max Operating Temperature: 125°C; Packaging: Tape and Reel; Length: 3.2mm; Width: 2.5mm; Height: 0.95mm; Capacitance: 22nF; Ceramic Type: X7R; Rated Voltage (DC): 25V
footprint WCAP-CSGP_1210_L3.2W2.5H0.95
simulation model 1210_885012209018_22nF
pins: 1, 2

## 885012209019
designator C?, comment 100nF
WCAP-CSGP Multilayer Ceramic Chip Capacitor, General Purpose, size 1210, X7R, 100nF, 25V; Manufacturer Part Number: 885012209019; Manufacturer: Wurth Elektronik; Case/Size Code: 1210; Capacitance Tolerance: +/-10%; Dissipation Factor: 3.5%; Insulation Resistance: 5GΩ; Technical Reference: X7R1210104K025DFCT10000; Category: Multilayer Ceramic Chip Capacitors; Match Code: WCAP-CSGP; ComponentLink1Description: Website Link; ComponentLink1URL: https://www.we-online.com/redexpert/article/885012209019?ad; ComponentLink2Description: Datasheet Link; ComponentLink2URL: https://www.we-online.com/redexpert/spec/885012209019?ad; Mount: Surface Mount; Min Operating Temperature: -55°C; Max Operating Temperature: 125°C; Packaging: Tape and Reel; Length: 3.2mm; Width: 2.5mm; Height: 0.95mm; Capacitance: 100nF; Ceramic Type: X7R; Rated Voltage (DC): 25V
footprint WCAP-CSGP_1210_L3.2W2.5H0.95
simulation model 1210_885012209019_100nF
pins: 1, 2

## 885012209020
designator C?, comment 220nF
WCAP-CSGP Multilayer Ceramic Chip Capacitor, General Purpose, size 1210, X7R, 220nF, 25V; Manufacturer Part Number: 885012209020; Manufacturer: Wurth Elektronik; Case/Size Code: 1210; Capacitance Tolerance: +/-10%; Dissipation Factor: 3.5%; Insulation Resistance: 2.3GΩ; Technical Reference: X7R1210224K025DFCT10000; Category: Multilayer Ceramic Chip Capacitors; Match Code: WCAP-CSGP; ComponentLink1Description: Website Link; ComponentLink1URL: https://www.we-online.com/redexpert/article/885012209020?ad; ComponentLink2Description: Datasheet Link; ComponentLink2URL: https://www.we-online.com/redexpert/spec/885012209020?ad; Mount: Surface Mount; Min Operating Temperature: -55°C; Max Operating Temperature: 125°C; Packaging: Tape and Reel; Length: 3.2mm; Width: 2.5mm; Height: 0.95mm; Capacitance: 220nF; Ceramic Type: X7R; Rated Voltage (DC): 25V
footprint WCAP-CSGP_1210_L3.2W2.5H0.95
simulation model 1210_885012209020_220nF
pins: 1, 2

## 885012209021
designator C?, comment 330nF
WCAP-CSGP Multilayer Ceramic Chip Capacitor, General Purpose, size 1210, X7R, 330nF, 25V; Manufacturer Part Number: 885012209021; Manufacturer: Wurth Elektronik; Case/Size Code: 1210; Capacitance Tolerance: +/-10%; Dissipation Factor: 3.5%; Insulation Resistance: 1.5GΩ; Technical Reference: X7R1210334K025DFCT10000; Category: Multilayer Ceramic Chip Capacitors; Match Code: WCAP-CSGP; ComponentLink1Description: Website Link; ComponentLink1URL: https://www.we-online.com/redexpert/article/885012209021?ad; ComponentLink2Description: Datasheet Link; ComponentLink2URL: https://www.we-online.com/redexpert/spec/885012209021?ad; Mount: Surface Mount; Min Operating Temperature: -55°C; Max Operating Temperature: 125°C; Packaging: Tape and Reel; Length: 3.2mm; Width: 2.5mm; Height: 0.95mm; Capacitance: 330nF; Ceramic Type: X7R; Rated Voltage (DC): 25V
footprint WCAP-CSGP_1210_L3.2W2.5H0.95
simulation model 1210_885012209021_330nF
pins: 1, 2

## 885012209022
designator C?, comment 470nF
WCAP-CSGP Multilayer Ceramic Chip Capacitor, General Purpose, size 1210, X7R, 470nF, 25V; Manufacturer Part Number: 885012209022; Manufacturer: Wurth Elektronik; Case/Size Code: 1210; Capacitance Tolerance: +/-10%; Dissipation Factor: 3.5%; Insulation Resistance: 1.1GΩ; Technical Reference: X7R1210474K025DFCT10000; Category: Multilayer Ceramic Chip Capacitors; Match Code: WCAP-CSGP; ComponentLink1Description: Website Link; ComponentLink1URL: https://www.we-online.com/redexpert/article/885012209022?ad; ComponentLink2Description: Datasheet Link; ComponentLink2URL: https://www.we-online.com/redexpert/spec/885012209022?ad; Mount: Surface Mount; Min Operating Temperature: -55°C; Max Operating Temperature: 125°C; Packaging: Tape and Reel; Length: 3.2mm; Width: 2.5mm; Height: 0.95mm; Capacitance: 470nF; Ceramic Type: X7R; Rated Voltage (DC): 25V
footprint WCAP-CSGP_1210_L3.2W2.5H0.95
simulation model 1210_885012209022_470nF
pins: 1, 2

## 885012209023
designator C?, comment 680nF
WCAP-CSGP Multilayer Ceramic Chip Capacitor, General Purpose, size 1210, X7R, 680nF, 25V; Manufacturer Part Number: 885012209023; Manufacturer: Wurth Elektronik; Case/Size Code: 1210; Capacitance Tolerance: +/-10%; Dissipation Factor: 3.5%; Insulation Resistance: 0.7GΩ; Technical Reference: X7R1210684K025DFCT10000; Category: Multilayer Ceramic Chip Capacitors; Match Code: WCAP-CSGP; ComponentLink1Description: Website Link; ComponentLink1URL: https://www.we-online.com/redexpert/article/885012209023?ad; ComponentLink2Description: Datasheet Link; ComponentLink2URL: https://www.we-online.com/redexpert/spec/885012209023?ad; Mount: Surface Mount; Min Operating Temperature: -55°C; Max Operating Temperature: 125°C; Packaging: Tape and Reel; Length: 3.2mm; Width: 2.5mm; Height: 1.25mm; Capacitance: 680nF; Ceramic Type: X7R; Rated Voltage (DC): 25V
footprint WCAP-CSGP_1210_L3.2W2.5H1.25
simulation model 1210_885012209023_680nF
pins: 1, 2

## 885012209024
designator C?, comment 1μF
WCAP-CSGP Multilayer Ceramic Chip Capacitor, General Purpose, size 1210, X7R, 1μF, 25V; Manufacturer Part Number: 885012209024; Manufacturer: Wurth Elektronik; Case/Size Code: 1210; Capacitance Tolerance: +/-10%; Dissipation Factor: 3.5%; Insulation Resistance: 0.5GΩ; Technical Reference: X7R1210105K025DFCT10000; Category: Multilayer Ceramic Chip Capacitors; Match Code: WCAP-CSGP; ComponentLink1Description: Website Link; ComponentLink1URL: https://www.we-online.com/redexpert/article/885012209024?ad; ComponentLink2Description: Datasheet Link; ComponentLink2URL: https://www.we-online.com/redexpert/spec/885012209024?ad; Mount: Surface Mount; Min Operating Temperature: -55°C; Max Operating Temperature: 125°C; Packaging: Tape and Reel; Length: 3.2mm; Width: 2.5mm; Height: 1.25mm; Capacitance: 1μF; Ceramic Type: X7R; Rated Voltage (DC): 25V
footprint WCAP-CSGP_1210_L3.2W2.5H1.25
simulation model 1210_885012209024_1uF
pins: 1, 2

## 885012209025
designator C?, comment 2.2μF
WCAP-CSGP Multilayer Ceramic Chip Capacitor, General Purpose, size 1210, X7R, 2.2μF, 25V; Manufacturer Part Number: 885012209025; Manufacturer: Wurth Elektronik; Case/Size Code: 1210; Capacitance Tolerance: +/-10%; Dissipation Factor: 3.5%; Insulation Resistance: 0.2GΩ; Technical Reference: X7R1210225K025DFCT10000; Category: Multilayer Ceramic Chip Capacitors; Match Code: WCAP-CSGP; ComponentLink1Description: Website Link; ComponentLink1URL: https://www.we-online.com/redexpert/article/885012209025?ad; ComponentLink2Description: Datasheet Link; ComponentLink2URL: https://www.we-online.com/redexpert/spec/885012209025?ad; Mount: Surface Mount; Min Operating Temperature: -55°C; Max Operating Temperature: 125°C; Packaging: Tape and Reel; Length: 3.2mm; Width: 2.5mm; Height: 1.6mm; Capacitance: 2.2μF; Ceramic Type: X7R; Rated Voltage (DC): 25V
footprint WCAP-CSGP_1210_L3.2W2.5H1.6
simulation model 1210_885012209025_2.2uF
pins: 1, 2

## 885012209026
designator C?, comment 3.3μF
WCAP-CSGP Multilayer Ceramic Chip Capacitor, General Purpose, size 1210, X7R, 3.3μF, 25V; Manufacturer Part Number: 885012209026; Manufacturer: Wurth Elektronik; Case/Size Code: 1210; Capacitance Tolerance: +/-10%; Dissipation Factor: 3.5%; Insulation Resistance: 0.2GΩ; Technical Reference: X7R1210335K025DFCT10000; Category: Multilayer Ceramic Chip Capacitors; Match Code: WCAP-CSGP; ComponentLink1Description: Website Link; ComponentLink1URL: https://www.we-online.com/redexpert/article/885012209026?ad; ComponentLink2Description: Datasheet Link; ComponentLink2URL: https://www.we-online.com/redexpert/spec/885012209026?ad; Mount: Surface Mount; Min Operating Temperature: -55°C; Max Operating Temperature: 125°C; Packaging: Tape and Reel; Length: 3.2mm; Width: 2.5mm; Height: 1.6mm; Capacitance: 3.3μF; Ceramic Type: X7R; Rated Voltage (DC): 25V
footprint WCAP-CSGP_1210_L3.2W2.5H1.6
simulation model 1210_885012209026_3.3uF
pins: 1, 2

## 885012209027
designator C?, comment 4.7μF
WCAP-CSGP Multilayer Ceramic Chip Capacitor, General Purpose, size 1210, X7R, 4.7μF, 25V; Manufacturer Part Number: 885012209027; Manufacturer: Wurth Elektronik; Case/Size Code: 1210; Capacitance Tolerance: +/-10%; Dissipation Factor: 3.5%; Insulation Resistance: 0.1GΩ; Technical Reference: X7R1210475K025DFCT10000; Category: Multilayer Ceramic Chip Capacitors; Match Code: WCAP-CSGP; ComponentLink1Description: Website Link; ComponentLink1URL: https://www.we-online.com/redexpert/article/885012209027?ad; ComponentLink2Description: Datasheet Link; ComponentLink2URL: https://www.we-online.com/redexpert/spec/885012209027?ad; Mount: Surface Mount; Min Operating Temperature: -55°C; Max Operating Temperature: 125°C; Packaging: Tape and Reel; Length: 3.2mm; Width: 2.5mm; Height: 2mm; Capacitance: 4.7μF; Ceramic Type: X7R; Rated Voltage (DC): 25V
footprint WCAP-CSGP_1210_L3.2W2.5H2
simulation model 1210_885012209027_4.7uF
pins: 1, 2

## 885012209028
designator C?, comment 10μF
WCAP-CSGP Multilayer Ceramic Chip Capacitor, General Purpose, size 1210, X7R, 10μF, 25V; Manufacturer Part Number: 885012209028; Manufacturer: Wurth Elektronik; Case/Size Code: 1210; Capacitance Tolerance: +/-10%; Dissipation Factor: 5%; Insulation Resistance: 0.01GΩ; Technical Reference: X7R1210106K025DFCT10000; Category: Multilayer Ceramic Chip Capacitors; Match Code: WCAP-CSGP; ComponentLink1Description: Website Link; ComponentLink1URL: https://www.we-online.com/redexpert/article/885012209028?ad; ComponentLink2Description: Datasheet Link; ComponentLink2URL: https://www.we-online.com/redexpert/spec/885012209028?ad; Mount: Surface Mount; Min Operating Temperature: -55°C; Max Operating Temperature: 125°C; Packaging: Tape and Reel; Length: 3.2mm; Width: 2.5mm; Height: 2mm; Capacitance: 10μF; Ceramic Type: X7R; Rated Voltage (DC): 25V
footprint WCAP-CSGP_1210_L3.2W2.5H2
simulation model 1210_885012209028_10uF
pins: 1, 2

## 885012209029
designator C?, comment 1nF
WCAP-CSGP Multilayer Ceramic Chip Capacitor, General Purpose, size 1210, X7R, 1nF, 50V; Manufacturer Part Number: 885012209029; Manufacturer: Wurth Elektronik; Case/Size Code: 1210; Capacitance Tolerance: +/-10%; Dissipation Factor: 2.5%; Insulation Resistance: 10GΩ; Technical Reference: X7R1210102K050DFCT10000; Category: Multilayer Ceramic Chip Capacitors; Match Code: WCAP-CSGP; ComponentLink1Description: Website Link; ComponentLink1URL: https://www.we-online.com/redexpert/article/885012209029?ad; ComponentLink2Description: Datasheet Link; ComponentLink2URL: https://www.we-online.com/redexpert/spec/885012209029?ad; Mount: Surface Mount; Min Operating Temperature: -55°C; Max Operating Temperature: 125°C; Packaging: Tape and Reel; Length: 3.2mm; Width: 2.5mm; Height: 0.95mm; Capacitance: 1nF; Ceramic Type: X7R; Rated Voltage (DC): 50V
footprint WCAP-CSGP_1210_L3.2W2.5H0.95
simulation model 1210_885012209029_1nF
pins: 1, 2

## 885012209030
designator C?, comment 1.5nF
WCAP-CSGP Multilayer Ceramic Chip Capacitor, General Purpose, size 1210, X7R, 1.5nF, 50V; Manufacturer Part Number: 885012209030; Manufacturer: Wurth Elektronik; Case/Size Code: 1210; Capacitance Tolerance: +/-10%; Dissipation Factor: 2.5%; Insulation Resistance: 10GΩ; Technical Reference: X7R1210152K050DFCT10000; Category: Multilayer Ceramic Chip Capacitors; Match Code: WCAP-CSGP; ComponentLink1Description: Website Link; ComponentLink1URL: https://www.we-online.com/redexpert/article/885012209030?ad; ComponentLink2Description: Datasheet Link; ComponentLink2URL: https://www.we-online.com/redexpert/spec/885012209030?ad; Mount: Surface Mount; Min Operating Temperature: -55°C; Max Operating Temperature: 125°C; Packaging: Tape and Reel; Length: 3.2mm; Width: 2.5mm; Height: 0.95mm; Capacitance: 1.5nF; Ceramic Type: X7R; Rated Voltage (DC): 50V
footprint WCAP-CSGP_1210_L3.2W2.5H0.95
simulation model 1210_885012209030_1.5nF
pins: 1, 2